# Altium integrated library Micron Memory Parallel NOR Flash.IntLib: 720 symbols (part 43 of 216)
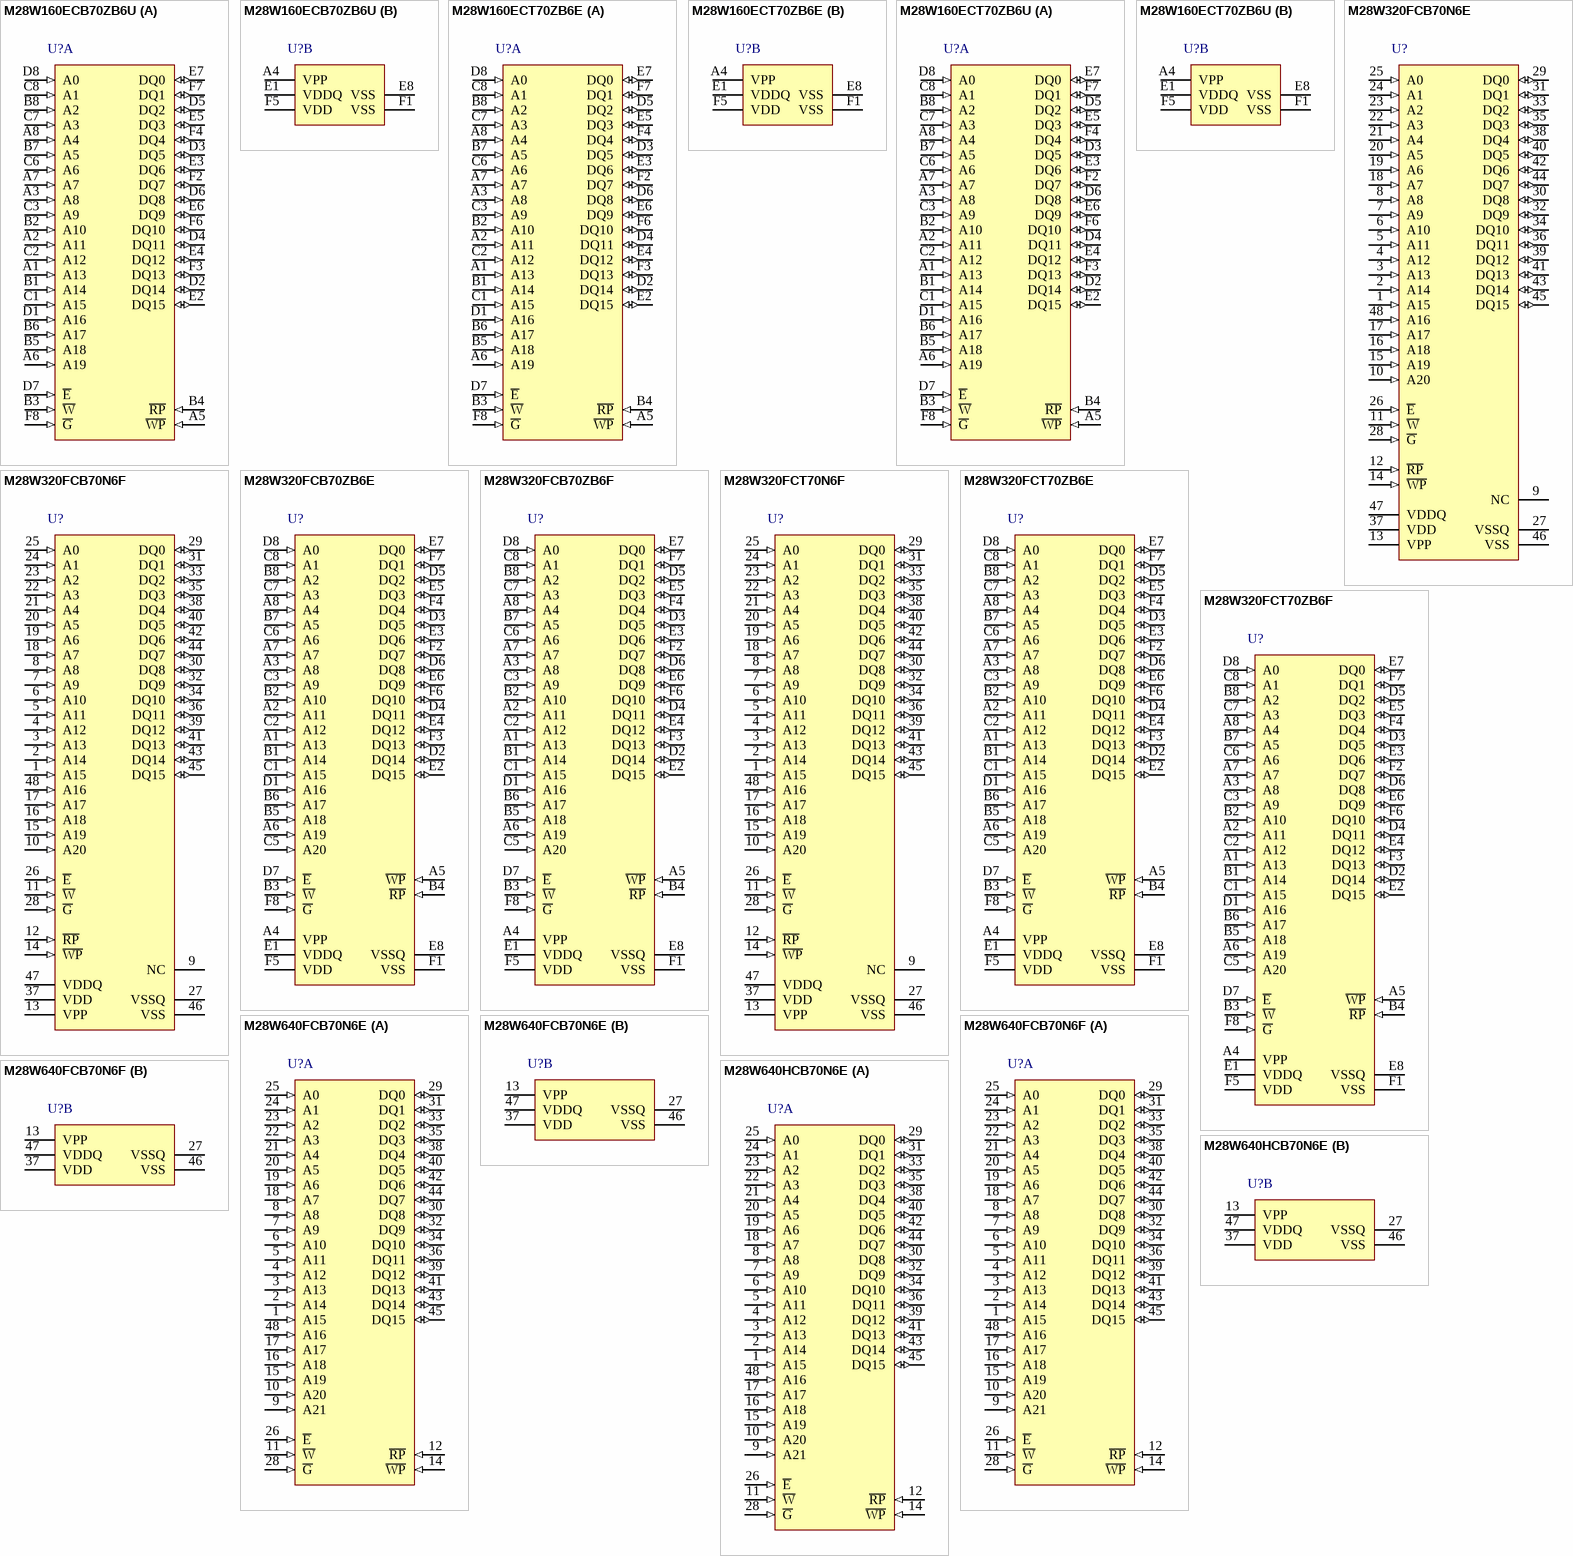
[diagram p98: symbols M28W160ECB70ZB6U to M28W640HCB70N6E]

## M28W320FCT70ZB6E
designator U?
32 Mb (x16) Parallel NOR Flash Memory, 70 ns, 2.7 to 3.6 V, 47-ball TFBGA (ZB), Tray; Part Family: M28W; Manufacturer: Micron; PartNumber: M28W320FCT70ZB6E; Density: 32Mb; Op Temp: -40C to +85C; Speed: 70ns; Voltage: 2.7V-3.6V; DatasheetVersion: Rev.5; PackageReference: MICT-ZB-47; PackageDescription: 6.39x6.37mm, 6.39 X 6.37 mm, Pitch 0.75 mm; RoHS: Yes; Width: x16; Mounting Technology: Surface Mount; ComponentLink1Description: Manufacturer URL; ComponentLink1URL: http://www.micron.com/; ComponentLink2Description: Datasheet; ComponentLink2URL: http://www.micron.com/~/media/Documents/Products/Data%20Sheet/NOR%20Flash/Parallel/M28W/M28W320FC.pdf; ComponentLink3Description: Package Specification; ComponentLink3URL: http://www.micron.com/~/media/Documents/Products/Data%20Sheet/NOR%20Flash/Parallel/M28W/M28W320FC.pdf
footprint MICT-ZB-47 (BGA, 47-Balls, Body 6.39x6.37mm, Pitch 0.75mm,)
pins: A1 A13 (in) "The Address Input select the cells in the memory array to access during Bus Read operations. During Bus Write operations they control the commands sent to the Command Interface of the internal state machine.", A2 A11 (in) "The Address Input select the cells in the memory array to access during Bus Read operations. During Bus Write operations they control the commands sent to the Command Interface of the internal state machine.", A3 A8 (in) "The Address Input select the cells in the memory array to access during Bus Read operations. During Bus Write operations they control the commands sent to the Command Interface of the internal state machine.", A4 VPP (power) "VPP is both a control input and a power supply pin. The two functions are selected by the voltage range applied to the pin. The Supply Voltage VDD and the Program Supply Voltage VPP can be applied in any order. If VPP is (See Datasheet)", A5 ~{WP} (in) "Write Protect is an input that gives an additional hardware protection for each block. When Write Protect is at VIL, the Lock-Down is enabled and the protection status of the block cannot be changed. When Write Protect is at (See Datasheet)", A6 A19 (in) "The Address Input select the cells in the memory array to access during Bus Read operations. During Bus Write operations they control the commands sent to the Command Interface of the internal state machine.", A7 (in) "The Address Input select the cells in the memory array to access during Bus Read operations. During Bus Write operations they control the commands sent to the Command Interface of the internal state machine.", A8 A4 (in) "The Address Input select the cells in the memory array to access during Bus Read operations. During Bus Write operations they control the commands sent to the Command Interface of the internal state machine.", B1 A14 (in) "The Address Input select the cells in the memory array to access during Bus Read operations. During Bus Write operations they control the commands sent to the Command Interface of the internal state machine.", B2 A10 (in) "The Address Input select the cells in the memory array to access during Bus Read operations. During Bus Write operations they control the commands sent to the Command Interface of the internal state machine.", B3 ~{W} (in) "The Write Enable controls the Bus Write operation of the memory’s Command Interface. The data and address inputs are latched on the rising edge of Chip Enable, E, or Write Enable, W, whichever occurs first.", B4 ~{RP} (in) "The Reset input provides a hardware reset of the memory. When Reset is at VIL, the memory is in reset mode: the outputs are high impedance and the current consumption is minimized. After Reset all blocks are in the Locked (See Datasheet)", B5 A18 (in) "The Address Input select the cells in the memory array to access during Bus Read operations. During Bus Write operations they control the commands sent to the Command Interface of the internal state machine.", B6 A17 (in) "The Address Input select the cells in the memory array to access during Bus Read operations. During Bus Write operations they control the commands sent to the Command Interface of the internal state machine.", B7 A5 (in) "The Address Input select the cells in the memory array to access during Bus Read operations. During Bus Write operations they control the commands sent to the Command Interface of the internal state machine.", B8 A2 (in) "The Address Input select the cells in the memory array to access during Bus Read operations. During Bus Write operations they control the commands sent to the Command Interface of the internal state machine.", C1 A15 (in) "The Address Input select the cells in the memory array to access during Bus Read operations. During Bus Write operations they control the commands sent to the Command Interface of the internal state machine.", C2 A12 (in) "The Address Input select the cells in the memory array to access during Bus Read operations. During Bus Write operations they control the commands sent to the Command Interface of the internal state machine.", C3 A9 (in) "The Address Input select the cells in the memory array to access during Bus Read operations. During Bus Write operations they control the commands sent to the Command Interface of the internal state machine.", C5 A20 (in) "The Address Input select the cells in the memory array to access during Bus Read operations. During Bus Write operations they control the commands sent to the Command Interface of the internal state machine.", C6 A6 (in) "The Address Input select the cells in the memory array to access during Bus Read operations. During Bus Write operations they control the commands sent to the Command Interface of the internal state machine.", C7 A3 (in) "The Address Input select the cells in the memory array to access during Bus Read operations. During Bus Write operations they control the commands sent to the Command Interface of the internal state machine.", C8 A1 (in) "The Address Input select the cells in the memory array to access during Bus Read operations. During Bus Write operations they control the commands sent to the Command Interface of the internal state machine.", D1 A16 (in) "The Address Input select the cells in the memory array to access during Bus Read operations. During Bus Write operations they control the commands sent to the Command Interface of the internal state machine.", D2 DQ14 (io) "The Data I/O outputs the data stored at the selected address during a Bus Read operation or inputs a command or the data to be programmed during a Write Bus operation.", D3 DQ5 (io) "The Data I/O outputs the data stored at the selected address during a Bus Read operation or inputs a command or the data to be programmed during a Write Bus operation.", D4 DQ11 (io) "The Data I/O outputs the data stored at the selected address during a Bus Read operation or inputs a command or the data to be programmed during a Write Bus operation.", D5 DQ2 (io) "The Data I/O Output the data stored at the selected address during a Bus Read operation or input a command or the data to be programmed during a Write Bus operation.", D6 DQ8 (io) "The Data I/O outputs the data stored at the selected address during a Bus Read operation or inputs a command or the data to be programmed during a Write Bus operation.", D7 ~{E} (in) "The Chip Enable input activates the memory control logic, input buffers, decoders and sense amplifiers. When Chip Enable is at VILand Reset is at VIH the device is in active mode. When Chip Enable is at VIH the memory is (See Datasheet)", D8 A0 (in) "The Address Input select the cells in the memory array to access during Bus Read operations. During Bus Write operations they control the commands sent to the Command Interface of the internal state machine.", E1 VDDQ (power) "VDDQ provides the power supply to the I/O pins and enables all Outputs to be powered independently from VDD. VDDQ can be tied to VDD or can use a separate supply.", E2 DQ15 (io) "The Data I/O outputs the data stored at the selected address during a Bus Read operation or inputs a command or the data to be programmed during a Write Bus operation.", E3 DQ6 (io) "The Data I/O outputs the data stored at the selected address during a Bus Read operation or inputs a command or the data to be programmed during a Write Bus operation.", E4 DQ12 (io) "The Data I/O outputs the data stored at the selected address during a Bus Read operation or inputs a command or the data to be programmed during a Write Bus operation.", E5 DQ3 (io) "The Data I/O outputs the data stored at the selected address during a Bus Read operation or input a command or the data to be programmed during a Write Bus operation.", E6 DQ9 (io) "The Data I/O outputs the data stored at the selected address during a Bus Read operation or inputs a command or the data to be programmed during a Write Bus operation.", E7 DQ0 (io) "The Data I/O Output the data stored at the selected address during a Bus Read operation or Input a command or the data to be programmed during a Write Bus operation.", E8 VSSQ (power), F1 VSS (power) "VSS is the reference for all voltage measurements. Note: Each device in a system should have VDD, VDDQ and VPP decoupled with a 0.1uF capacitor close to the pin. See Figure 7: AC Measurement Load Circuit. The PCB trace (See Datasheet)", F2 DQ7 (io) "The Data I/O outputs the data stored at the selected address during a Bus Read operation or inputs a command or the data to be programmed during a Write Bus operation.", F3 DQ13 (io) "The Data I/O outputs the data stored at the selected address during a Bus Read operation or inputs a command or the data to be programmed during a Write Bus operation.", F4 DQ4 (io) "The Data I/O OUTPUT the data stored at the selected address during a Bus Read operation or INPUT a command or the data to be programmed during a Write Bus operation.", F5 VDD (power) "VDD provides the power supply to the internal core of the memory device. It is the main power supply for all operations (Read, Program and Erase).", F6 DQ10 (io) "The Data I/O outputs the data stored at the selected address during a Bus Read operation or inputs a command or the data to be programmed during a Write Bus operation.", F7 DQ1 (io) "The Data I/O Output the data stored at the selected address during a Bus Read operation or inputs a command or the data to be programmed during a Write Bus operation.", F8 ~{G} (in) "The Output Enable controls data outputs during the Bus Read operation of the memory."

## M28W320FCT70ZB6F
designator U?
32 Mb (x16) Parallel NOR Flash Memory, 70 ns, 2.7 to 3.6 V, 47-ball TFBGA (ZB), Tape & Reel; Part Family: M28W; Manufacturer: Micron; PartNumber: M28W320FCT70ZB6F; Density: 32Mb; Op Temp: -40C to +85C; Speed: 70ns; Voltage: 2.7V-3.6V; DatasheetVersion: Rev.5; PackageReference: MICT-ZB-47; PackageDescription: 6.39x6.37mm, 6.39 X 6.37 mm, Pitch 0.75 mm; RoHS: Yes; Width: x16; ComponentLink1Description: Manufacturer URL; ComponentLink1URL: http://www.micron.com/; ComponentLink2Description: Datasheet; ComponentLink2URL: http://www.micron.com/~/media/Documents/Products/Data%20Sheet/NOR%20Flash/Parallel/M28W/M28W320FC.pdf; ComponentLink3Description: Package Specification; ComponentLink3URL: http://www.micron.com/~/media/Documents/Products/Data%20Sheet/NOR%20Flash/Parallel/M28W/M28W320FC.pdf
footprint MICT-ZB-47 (BGA, 47-Balls, Body 6.39x6.37mm, Pitch 0.75mm,)
pins: A1 A13 (in) "The Address Input select the cells in the memory array to access during Bus Read operations. During Bus Write operations they control the commands sent to the Command Interface of the internal state machine.", A2 A11 (in) "The Address Input select the cells in the memory array to access during Bus Read operations. During Bus Write operations they control the commands sent to the Command Interface of the internal state machine.", A3 A8 (in) "The Address Input select the cells in the memory array to access during Bus Read operations. During Bus Write operations they control the commands sent to the Command Interface of the internal state machine.", A4 VPP (power) "VPP is both a control input and a power supply pin. The two functions are selected by the voltage range applied to the pin. The Supply Voltage VDD and the Program Supply Voltage VPP can be applied in any order. If VPP is (See Datasheet)", A5 ~{WP} (in) "Write Protect is an input that gives an additional hardware protection for each block. When Write Protect is at VIL, the Lock-Down is enabled and the protection status of the block cannot be changed. When Write Protect is at (See Datasheet)", A6 A19 (in) "The Address Input select the cells in the memory array to access during Bus Read operations. During Bus Write operations they control the commands sent to the Command Interface of the internal state machine.", A7 (in) "The Address Input select the cells in the memory array to access during Bus Read operations. During Bus Write operations they control the commands sent to the Command Interface of the internal state machine.", A8 A4 (in) "The Address Input select the cells in the memory array to access during Bus Read operations. During Bus Write operations they control the commands sent to the Command Interface of the internal state machine.", B1 A14 (in) "The Address Input select the cells in the memory array to access during Bus Read operations. During Bus Write operations they control the commands sent to the Command Interface of the internal state machine.", B2 A10 (in) "The Address Input select the cells in the memory array to access during Bus Read operations. During Bus Write operations they control the commands sent to the Command Interface of the internal state machine.", B3 ~{W} (in) "The Write Enable controls the Bus Write operation of the memory’s Command Interface. The data and address inputs are latched on the rising edge of Chip Enable, E, or Write Enable, W, whichever occurs first.", B4 ~{RP} (in) "The Reset input provides a hardware reset of the memory. When Reset is at VIL, the memory is in reset mode: the outputs are high impedance and the current consumption is minimized. After Reset all blocks are in the Locked (See Datasheet)", B5 A18 (in) "The Address Input select the cells in the memory array to access during Bus Read operations. During Bus Write operations they control the commands sent to the Command Interface of the internal state machine.", B6 A17 (in) "The Address Input select the cells in the memory array to access during Bus Read operations. During Bus Write operations they control the commands sent to the Command Interface of the internal state machine.", B7 A5 (in) "The Address Input select the cells in the memory array to access during Bus Read operations. During Bus Write operations they control the commands sent to the Command Interface of the internal state machine.", B8 A2 (in) "The Address Input select the cells in the memory array to access during Bus Read operations. During Bus Write operations they control the commands sent to the Command Interface of the internal state machine.", C1 A15 (in) "The Address Input select the cells in the memory array to access during Bus Read operations. During Bus Write operations they control the commands sent to the Command Interface of the internal state machine.", C2 A12 (in) "The Address Input select the cells in the memory array to access during Bus Read operations. During Bus Write operations they control the commands sent to the Command Interface of the internal state machine.", C3 A9 (in) "The Address Input select the cells in the memory array to access during Bus Read operations. During Bus Write operations they control the commands sent to the Command Interface of the internal state machine.", C5 A20 (in) "The Address Input select the cells in the memory array to access during Bus Read operations. During Bus Write operations they control the commands sent to the Command Interface of the internal state machine.", C6 A6 (in) "The Address Input select the cells in the memory array to access during Bus Read operations. During Bus Write operations they control the commands sent to the Command Interface of the internal state machine.", C7 A3 (in) "The Address Input select the cells in the memory array to access during Bus Read operations. During Bus Write operations they control the commands sent to the Command Interface of the internal state machine.", C8 A1 (in) "The Address Input select the cells in the memory array to access during Bus Read operations. During Bus Write operations they control the commands sent to the Command Interface of the internal state machine.", D1 A16 (in) "The Address Input select the cells in the memory array to access during Bus Read operations. During Bus Write operations they control the commands sent to the Command Interface of the internal state machine.", D2 DQ14 (io) "The Data I/O outputs the data stored at the selected address during a Bus Read operation or inputs a command or the data to be programmed during a Write Bus operation.", D3 DQ5 (io) "The Data I/O outputs the data stored at the selected address during a Bus Read operation or inputs a command or the data to be programmed during a Write Bus operation.", D4 DQ11 (io) "The Data I/O outputs the data stored at the selected address during a Bus Read operation or inputs a command or the data to be programmed during a Write Bus operation.", D5 DQ2 (io) "The Data I/O Output the data stored at the selected address during a Bus Read operation or input a command or the data to be programmed during a Write Bus operation.", D6 DQ8 (io) "The Data I/O outputs the data stored at the selected address during a Bus Read operation or inputs a command or the data to be programmed during a Write Bus operation.", D7 ~{E} (in) "The Chip Enable input activates the memory control logic, input buffers, decoders and sense amplifiers. When Chip Enable is at VILand Reset is at VIH the device is in active mode. When Chip Enable is at VIH the memory is (See Datasheet)", D8 A0 (in) "The Address Input select the cells in the memory array to access during Bus Read operations. During Bus Write operations they control the commands sent to the Command Interface of the internal state machine.", E1 VDDQ (power) "VDDQ provides the power supply to the I/O pins and enables all Outputs to be powered independently from VDD. VDDQ can be tied to VDD or can use a separate supply.", E2 DQ15 (io) "The Data I/O outputs the data stored at the selected address during a Bus Read operation or inputs a command or the data to be programmed during a Write Bus operation.", E3 DQ6 (io) "The Data I/O outputs the data stored at the selected address during a Bus Read operation or inputs a command or the data to be programmed during a Write Bus operation.", E4 DQ12 (io) "The Data I/O outputs the data stored at the selected address during a Bus Read operation or inputs a command or the data to be programmed during a Write Bus operation.", E5 DQ3 (io) "The Data I/O outputs the data stored at the selected address during a Bus Read operation or input a command or the data to be programmed during a Write Bus operation.", E6 DQ9 (io) "The Data I/O outputs the data stored at the selected address during a Bus Read operation or inputs a command or the data to be programmed during a Write Bus operation.", E7 DQ0 (io) "The Data I/O Output the data stored at the selected address during a Bus Read operation or Input a command or the data to be programmed during a Write Bus operation.", E8 VSSQ (power), F1 VSS (power) "VSS is the reference for all voltage measurements. Note: Each device in a system should have VDD, VDDQ and VPP decoupled with a 0.1uF capacitor close to the pin. See Figure 7: AC Measurement Load Circuit. The PCB trace (See Datasheet)", F2 DQ7 (io) "The Data I/O outputs the data stored at the selected address during a Bus Read operation or inputs a command or the data to be programmed during a Write Bus operation.", F3 DQ13 (io) "The Data I/O outputs the data stored at the selected address during a Bus Read operation or inputs a command or the data to be programmed during a Write Bus operation.", F4 DQ4 (io) "The Data I/O OUTPUT the data stored at the selected address during a Bus Read operation or INPUT a command or the data to be programmed during a Write Bus operation.", F5 VDD (power) "VDD provides the power supply to the internal core of the memory device. It is the main power supply for all operations (Read, Program and Erase).", F6 DQ10 (io) "The Data I/O outputs the data stored at the selected address during a Bus Read operation or inputs a command or the data to be programmed during a Write Bus operation.", F7 DQ1 (io) "The Data I/O Output the data stored at the selected address during a Bus Read operation or inputs a command or the data to be programmed during a Write Bus operation.", F8 ~{G} (in) "The Output Enable controls data outputs during the Bus Read operation of the memory."

## M28W640FCB70N6E
designator U?
64 Mb (x16) Parallel NOR Flash Memory, 70 ns, 2.7 to 3.6 V, 48-pin TSOP (N), Tray; Part Family: M28W; Manufacturer: Micron; PartNumber: M28W640FCB70N6E; Density: 64Mb; Op Temp: -40C to +85C; Speed: 70ns; Voltage: 2.7V-3.6V; DatasheetVersion: Rev. 4; PackageVersion: Rev 11; PackageReference: MICT-N-48; PackageDescription: 48-Pin TSOP, 18.4 X 12 mm, Pitch 0.5 mm; RoHS: Yes; Width: x16; ComponentLink1Description: Manufacturer URL; ComponentLink1URL: http://www.micron.com/; ComponentLink2Description: Datasheet; ComponentLink2URL: http://www.micron.com/~/media/Documents/Products/Data%20Sheet/NOR%20Flash/Parallel/M28W/M28W160EC.pdf; ComponentLink3Description: Package Specification; ComponentLink3URL: http://www.micron.com/~/media/Documents/Products/Data%20Sheet/NOR%20Flash/Parallel/P30/306666_P30_130nm_Discrete_DS.pdf
footprint MICT-N-48_N (SOP, 48-Leads, Body 12x18.4mm, Pitch 0.5mm, IPC Medium Density)
part A pins: 1 A15 (in) "The Address Input select the cells in the memory array to access during Bus Read operations. During Bus Write operations they control the commands sent to the Command Interface of the internal state machine.", 2 A14 (in) "The Address Input select the cells in the memory array to access during Bus Read operations. During Bus Write operations they control the commands sent to the Command Interface of the internal state machine.", 3 A13 (in) "The Address Input select the cells in the memory array to access during Bus Read operations. During Bus Write operations they control the commands sent to the Command Interface of the internal state machine.", 4 A12 (in) "The Address Input select the cells in the memory array to access during Bus Read operations. During Bus Write operations they control the commands sent to the Command Interface of the internal state machine.", 5 A11 (in) "The Address Input select the cells in the memory array to access during Bus Read operations. During Bus Write operations they control the commands sent to the Command Interface of the internal state machine.", 6 A10 (in) "The Address Input select the cells in the memory array to access during Bus Read operations. During Bus Write operations they control the commands sent to the Command Interface of the internal state machine.", 7 A9 (in) "The Address Input select the cells in the memory array to access during Bus Read operations. During Bus Write operations they control the commands sent to the Command Interface of the internal state machine.", 8 A8 (in) "The Address Input select the cells in the memory array to access during Bus Read operations. During Bus Write operations they control the commands sent to the Command Interface of the internal state machine.", 9 A21 (in) "The Address Input select the cells in the memory array to access during Bus Read operations. During Bus Write operations they control the commands sent to the Command Interface of the internal state machine.", 10 A20 (in) "The Address Input select the cells in the memory array to access during Bus Read operations. During Bus Write operations they control the commands sent to the Command Interface of the internal state machine.", 11 ~{W} (in) "The Write Enable controls the Bus Write operation of the memory’s Command Interface.The data and address inputs are latched on the rising edge of Chip Enable, E\, or Write Enable, W\, whichever occurs first.", 12 ~{RP} (in) "The Reset input provides a hardware reset of the memory. When Reset is at VIL, the memory is in reset mode: the outputs are high impedance and the current consumption is minimized. After Reset all blocks are in the Locked (See Datasheet)", 14 ~{WP} (in) "Write Protect is an input that gives an additional hardware protection for each block. When Write Protect is at VIL, the Lock-Down is enabled and the protection status of the block cannot be changed. When Write Protect is at (See Datasheet)", 15 A19 (in) "The Address Input select the cells in the memory array to access during Bus Read operations. During Bus Write operations they control the commands sent to the Command Interface of the internal state machine.", 16 A18 (in) "The Address Input select the cells in the memory array to access during Bus Read operations. During Bus Write operations they control the commands sent to the Command Interface of the internal state machine.", 17 A17 (in) "The Address Input select the cells in the memory array to access during Bus Read operations. During Bus Write operations they control the commands sent to the Command Interface of the internal state machine.", 18 A7 (in) "The Address Input select the cells in the memory array to access during Bus Read operations. During Bus Write operations they control the commands sent to the Command Interface of the internal state machine.", 19 A6 (in) "The Address Input select the cells in the memory array to access during Bus Read operations. During Bus Write operations they control the commands sent to the Command Interface of the internal state machine.", 20 A5 (in) "The Address Input select the cells in the memory array to access during Bus Read operations. During Bus Write operations they control the commands sent to the Command Interface of the internal state machine.", 21 A4 (in) "The Address Input select the cells in the memory array to access during Bus Read operations. During Bus Write operations they control the commands sent to the Command Interface of the internal state machine.", 22 A3 (in) "The Address Input select the cells in the memory array to access during Bus Read operations. During Bus Write operations they control the commands sent to the Command Interface of the internal state machine.", 23 A2 (in) "The Address Input select the cells in the memory array to access during Bus Read operations. During Bus Write operations they control the commands sent to the Command Interface of the internal state machine.", 24 A1 (in) "The Address Input select the cells in the memory array to access during Bus Read operations. During Bus Write operations they control the commands sent to the Command Interface of the internal state machine.", 25 A0 (in) "The Address Input select the cells in the memory array to access during Bus Read operations. During Bus Write operations they control the commands sent to the Command Interface of the internal state machine.", 26 ~{E} (in) "The Chip Enable input activates the memory control logic, input buffers, decoders and sense amplifiers. When Chip Enable is at VILand Reset is at VIH the device is in active mode. When Chip Enable is at VIH the memory is (See Datasheet)", 28 ~{G} (in) "The Output Enable controls data outputs during the Bus Read operation of the memory.", 29 DQ0 (io) "The Data I/O Output the data stored at the selected address during a Bus Read operation or inputs a command or the data to be programmed during a Write Bus operation.", 30 DQ8 (io) "The Data I/O Output the data stored at the selected address during a Bus Read operation or inputs a command or the data to be programmed during a Write Bus operation.", 31 DQ1 (io) "The Data I/O Output the data stored at the selected address during a Bus Read operation or inputs a command or the data to be programmed during a Write Bus operation.", 32 DQ9 (io) "The Data I/O Output the data stored at the selected address during a Bus Read operation or inputs a command or the data to be programmed during a Write Bus operation.", 33 DQ2 (io) "The Data I/O Output the data stored at the selected address during a Bus Read operation or input a command or the data to be programmed during a Write Bus operation.", 34 DQ10 (io) "The Data I/O Output the data stored at the selected address during a Bus Read operation or inputs a command or the data to be programmed during a Write Bus operation.", 35 DQ3 (io) "The Data I/O Output the data stored at the selected address during a Bus Read operation or inputs a command or the data to be programmed during a Write Bus operation.", 36 DQ11 (io) "The Data I/O Output the data stored at the selected address during a Bus Read operation or inputs a command or the data to be programmed during a Write Bus operation.", 38 DQ4 (io) "The Data I/O Output the data stored at the selected address during a Bus Read operation or inputs a command or the data to be programmed during a Write Bus operation.", 39 DQ12 (io) "The Data I/O Output the data stored at the selected address during a Bus Read operation or inputs a command or the data to be programmed during a Write Bus operation.", 40 DQ5 (io) "The Data I/O Output the data stored at the selected address during a Bus Read operation or inputs a command or the data to be programmed during a Write Bus operation.", 41 DQ13 (io) "The Data I/O Output the data stored at the selected address during a Bus Read operation or inputs a command or the data to be programmed during a Write Bus operation.", 42 DQ6 (io) "The Data I/O Output the data stored at the selected address during a Bus Read operation or inputs a command or the data to be programmed during a Write Bus operation.", 43 DQ14 (io) "The Data I/O Output the data stored at the selected address during a Bus Read operation or inputs a command or the data to be programmed during a Write Bus operation.", 44 DQ7 (io) "The Data I/O Output the data stored at the selected address during a Bus Read operation or inputs a command or the data to be programmed during a Write Bus operation.", 45 DQ15 (io) "The Data I/O Output the data stored at the selected address during a Bus Read operation or inputs a command or the data to be programmed during a Write Bus operation.", 48 A16 (in) "The Address Input select the cells in the memory array to access during Bus Read operations. During Bus Write operations they control the commands sent to the Command Interface of the internal state machine."
part B pins: 13 VPP (power) "VPP is both a control input and a power supply pin. The two functions are selected by the voltage range applied to the pin. The Supply Voltage VDD and the Program Supply Voltage VPP can be applied in any order.", 27 VSSQ (power), 37 VDD (power) "VDD provides the power supply to the internal core of the memory device. It is the main power supply for all operations (Read, Program and Erase).", 46 VSS (power) "VSS is the reference for all voltage measurements.", 47 VDDQ (power) "VDDQ provides the power supply to the I/O pins and enables all Outputs to be powered independently from VDD. VDDQ can be tied to VDD or can use a separate supply."

## M28W640FCB70N6F
designator U?
64 Mb (x16) Parallel NOR Flash Memory, 70 ns, 2.7 to 3.6 V, 48-pin TSOP (N), Tape & Reel; Part Family: M28W; Manufacturer: Micron; PartNumber: M28W640FCB70N6F; Density: 64Mb; Op Temp: -40C to +85C; Speed: 70ns; Voltage: 2.7V-3.6V; DatasheetVersion: Rev. 4; PackageVersion: Rev 11; PackageReference: MICT-N-48; PackageDescription: 48-Pin TSOP, 18.4 X 12 mm, Pitch 0.5 mm; RoHS: Yes; Width: x16; Mounting Technology: Surface Mount; ComponentLink1Description: Manufacturer URL; ComponentLink1URL: http://www.micron.com/; ComponentLink2Description: Datasheet; ComponentLink2URL: http://www.micron.com/~/media/Documents/Products/Data%20Sheet/NOR%20Flash/Parallel/M28W/M28W160EC.pdf; ComponentLink3Description: Package Specification; ComponentLink3URL: http://www.micron.com/~/media/Documents/Products/Data%20Sheet/NOR%20Flash/Parallel/P30/306666_P30_130nm_Discrete_DS.pdf
footprint MICT-N-48_N (SOP, 48-Leads, Body 12x18.4mm, Pitch 0.5mm, IPC Medium Density)
part A pins: 1 A15 (in) "The Address Input select the cells in the memory array to access during Bus Read operations. During Bus Write operations they control the commands sent to the Command Interface of the internal state machine.", 2 A14 (in) "The Address Input select the cells in the memory array to access during Bus Read operations. During Bus Write operations they control the commands sent to the Command Interface of the internal state machine.", 3 A13 (in) "The Address Input select the cells in the memory array to access during Bus Read operations. During Bus Write operations they control the commands sent to the Command Interface of the internal state machine.", 4 A12 (in) "The Address Input select the cells in the memory array to access during Bus Read operations. During Bus Write operations they control the commands sent to the Command Interface of the internal state machine.", 5 A11 (in) "The Address Input select the cells in the memory array to access during Bus Read operations. During Bus Write operations they control the commands sent to the Command Interface of the internal state machine.", 6 A10 (in) "The Address Input select the cells in the memory array to access during Bus Read operations. During Bus Write operations they control the commands sent to the Command Interface of the internal state machine.", 7 A9 (in) "The Address Input select the cells in the memory array to access during Bus Read operations. During Bus Write operations they control the commands sent to the Command Interface of the internal state machine.", 8 A8 (in) "The Address Input select the cells in the memory array to access during Bus Read operations. During Bus Write operations they control the commands sent to the Command Interface of the internal state machine.", 9 A21 (in) "The Address Input select the cells in the memory array to access during Bus Read operations. During Bus Write operations they control the commands sent to the Command Interface of the internal state machine.", 10 A20 (in) "The Address Input select the cells in the memory array to access during Bus Read operations. During Bus Write operations they control the commands sent to the Command Interface of the internal state machine.", 11 ~{W} (in) "The Write Enable controls the Bus Write operation of the memory’s Command Interface.The data and address inputs are latched on the rising edge of Chip Enable, E\, or Write Enable, W\, whichever occurs first.", 12 ~{RP} (in) "The Reset input provides a hardware reset of the memory. When Reset is at VIL, the memory is in reset mode: the outputs are high impedance and the current consumption is minimized. After Reset all blocks are in the Locked (See Datasheet)", 14 ~{WP} (in) "Write Protect is an input that gives an additional hardware protection for each block. When Write Protect is at VIL, the Lock-Down is enabled and the protection status of the block cannot be changed. When Write Protect is at (See Datasheet)", 15 A19 (in) "The Address Input select the cells in the memory array to access during Bus Read operations. During Bus Write operations they control the commands sent to the Command Interface of the internal state machine.", 16 A18 (in) "The Address Input select the cells in the memory array to access during Bus Read operations. During Bus Write operations they control the commands sent to the Command Interface of the internal state machine.", 17 A17 (in) "The Address Input select the cells in the memory array to access during Bus Read operations. During Bus Write operations they control the commands sent to the Command Interface of the internal state machine.", 18 A7 (in) "The Address Input select the cells in the memory array to access during Bus Read operations. During Bus Write operations they control the commands sent to the Command Interface of the internal state machine.", 19 A6 (in) "The Address Input select the cells in the memory array to access during Bus Read operations. During Bus Write operations they control the commands sent to the Command Interface of the internal state machine.", 20 A5 (in) "The Address Input select the cells in the memory array to access during Bus Read operations. During Bus Write operations they control the commands sent to the Command Interface of the internal state machine.", 21 A4 (in) "The Address Input select the cells in the memory array to access during Bus Read operations. During Bus Write operations they control the commands sent to the Command Interface of the internal state machine.", 22 A3 (in) "The Address Input select the cells in the memory array to access during Bus Read operations. During Bus Write operations they control the commands sent to the Command Interface of the internal state machine.", 23 A2 (in) "The Address Input select the cells in the memory array to access during Bus Read operations. During Bus Write operations they control the commands sent to the Command Interface of the internal state machine.", 24 A1 (in) "The Address Input select the cells in the memory array to access during Bus Read operations. During Bus Write operations they control the commands sent to the Command Interface of the internal state machine.", 25 A0 (in) "The Address Input select the cells in the memory array to access during Bus Read operations. During Bus Write operations they control the commands sent to the Command Interface of the internal state machine.", 26 ~{E} (in) "The Chip Enable input activates the memory control logic, input buffers, decoders and sense amplifiers. When Chip Enable is at VILand Reset is at VIH the device is in active mode. When Chip Enable is at VIH the memory is (See Datasheet)", 28 ~{G} (in) "The Output Enable controls data outputs during the Bus Read operation of the memory.", 29 DQ0 (io) "The Data I/O Output the data stored at the selected address during a Bus Read operation or inputs a command or the data to be programmed during a Write Bus operation.", 30 DQ8 (io) "The Data I/O Output the data stored at the selected address during a Bus Read operation or inputs a command or the data to be programmed during a Write Bus operation.", 31 DQ1 (io) "The Data I/O Output the data stored at the selected address during a Bus Read operation or inputs a command or the data to be programmed during a Write Bus operation.", 32 DQ9 (io) "The Data I/O Output the data stored at the selected address during a Bus Read operation or inputs a command or the data to be programmed during a Write Bus operation.", 33 DQ2 (io) "The Data I/O Output the data stored at the selected address during a Bus Read operation or input a command or the data to be programmed during a Write Bus operation.", 34 DQ10 (io) "The Data I/O Output the data stored at the selected address during a Bus Read operation or inputs a command or the data to be programmed during a Write Bus operation.", 35 DQ3 (io) "The Data I/O Output the data stored at the selected address during a Bus Read operation or inputs a command or the data to be programmed during a Write Bus operation.", 36 DQ11 (io) "The Data I/O Output the data stored at the selected address during a Bus Read operation or inputs a command or the data to be programmed during a Write Bus operation.", 38 DQ4 (io) "The Data I/O Output the data stored at the selected address during a Bus Read operation or inputs a command or the data to be programmed during a Write Bus operation.", 39 DQ12 (io) "The Data I/O Output the data stored at the selected address during a Bus Read operation or inputs a command or the data to be programmed during a Write Bus operation.", 40 DQ5 (io) "The Data I/O Output the data stored at the selected address during a Bus Read operation or inputs a command or the data to be programmed during a Write Bus operation.", 41 DQ13 (io) "The Data I/O Output the data stored at the selected address during a Bus Read operation or inputs a command or the data to be programmed during a Write Bus operation.", 42 DQ6 (io) "The Data I/O Output the data stored at the selected address during a Bus Read operation or inputs a command or the data to be programmed during a Write Bus operation.", 43 DQ14 (io) "The Data I/O Output the data stored at the selected address during a Bus Read operation or inputs a command or the data to be programmed during a Write Bus operation.", 44 DQ7 (io) "The Data I/O Output the data stored at the selected address during a Bus Read operation or inputs a command or the data to be programmed during a Write Bus operation.", 45 DQ15 (io) "The Data I/O Output the data stored at the selected address during a Bus Read operation or inputs a command or the data to be programmed during a Write Bus operation.", 48 A16 (in) "The Address Input select the cells in the memory array to access during Bus Read operations. During Bus Write operations they control the commands sent to the Command Interface of the internal state machine."
part B pins: 13 VPP (power) "VPP is both a control input and a power supply pin. The two functions are selected by the voltage range applied to the pin. The Supply Voltage VDD and the Program Supply Voltage VPP can be applied in any order.", 27 VSSQ (power), 37 VDD (power) "VDD provides the power supply to the internal core of the memory device. It is the main power supply for all operations (Read, Program and Erase).", 46 VSS (power) "VSS is the reference for all voltage measurements.", 47 VDDQ (power) "VDDQ provides the power supply to the I/O pins and enables all Outputs to be powered independently from VDD. VDDQ can be tied to VDD or can use a separate supply."